# Altium footprint library QSMD3.2x2.5.PcbLib: 1 footprints
Each footprint in its own frame and in the unit in brackets; x right, y up, seen from the top. Pads: shape width x height; smd on the part's side, far side on the other; paste and mask are expansions set on the pad; w line width, h text height; cw(c..) or ccw(c..) is an arc to the next point about the centre after c.
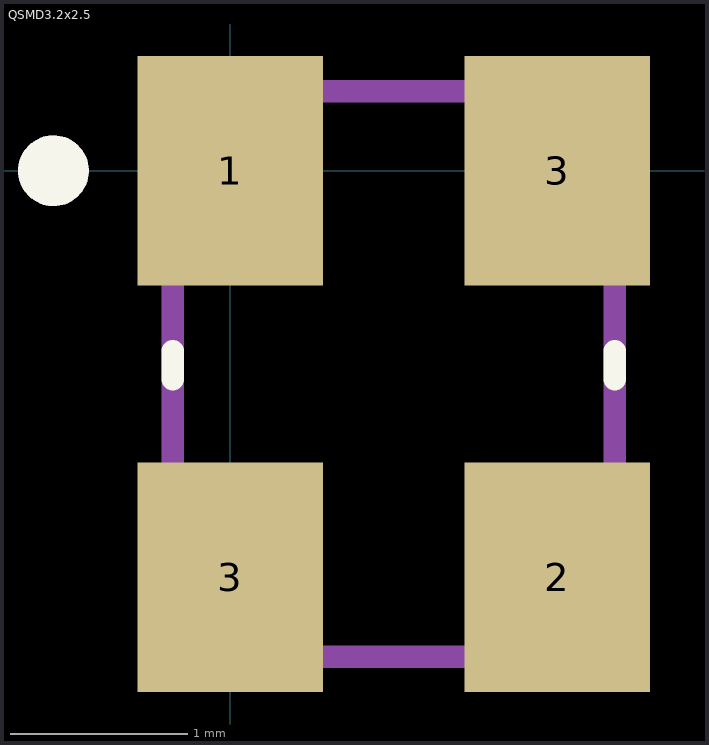
[diagram p0: the footprint, top view; thin cyan lines are the x and y axes]

## QSMD3.2x2.5 [mm] "Кварцевый резонатор"
height 0.8
pads (4):
  rect 1.05x1.3 smd: 1(0,0) 2(1.85,-2.3) 3(0,-2.3) 3(1.85,0)
Top Overlay:
  circle w0.2: c-1,0 r0.1
  lines w0.127: -0.325,-1.18 -0.325,-1.02 ; 2.175,-1.18 2.175,-1.02
Mechanical 13:
  circle w0.2: c-1,0 r0.1
  lines w0.127: -0.325,-2.75 2.175,-2.75 2.175,0.45 -0.325,0.45 -0.325,-2.75
3D body "step_temp.STEP": height 0.8, standoff 0, extent -0.325,-2.75 2.175,0.45